# EAGLE library part TCR13AGADJ (library johnmamish-toshiba)
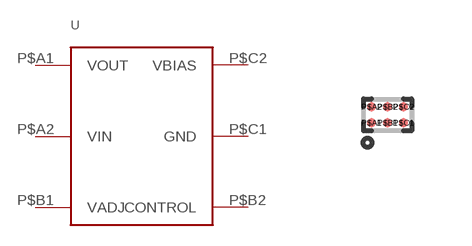
[diagram p0: symbol with the pads of WCSP6F_1.2X0.8MM; footprint WCSP6F_1.2X0.8MM]

Designator prefix -

## TCR13AGADJ  [WCSP6F_1.2X0.8MM]
P$A1  VOUT
P$A2  VIN
P$B1  VADJ
P$B2  CONTROL
P$C1  GND
P$C2  VBIAS

## Footprint WCSP6F_1.2X0.8MM (pad centres in mm)
smd 0.22 x 0.22: P$A1 -0.4,-0.2; P$A2 -0.4,0.2; P$B1 0,-0.2; P$B2 0,0.2; P$C1 0.4,-0.2; P$C2 0.4,0.2